# Altium footprint library MultiPowerSO-30.PcbLib: 1 footprints
Each footprint in its own frame and in the unit in brackets; x right, y up, seen from the top. Pads: shape width x height; smd on the part's side, far side on the other; paste and mask are expansions set on the pad; w line width, h text height; cw(c..) or ccw(c..) is an arc to the next point about the centre after c.
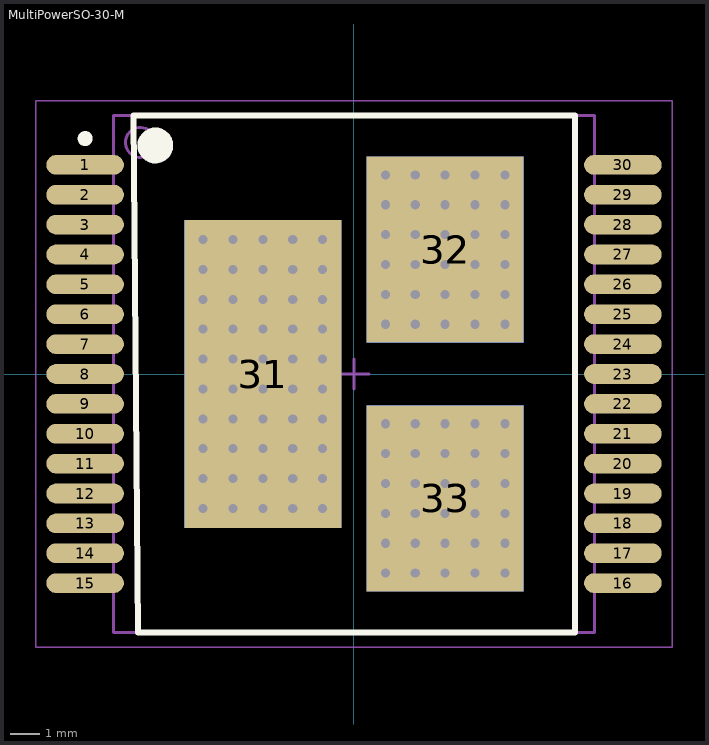
[diagram p0: the footprint, top view; thin cyan lines are the x and y axes]

## MultiPowerSO-30-M [mm] "SOP, 30-Leads, Body 17.20x16.00mm, Pitch 1.00mm,MultiPowerSO-30 Thermal Pad Design, IPC Low Density"
height 2.35
pads (36):
  oval 2.6x0.66 smd: 1(-9,7) 2(-9,6) 3(-9,5) 4(-9,4) 5(-9,3) 6(-9,2) 7(-9,1) 8(-9,0) 9(-9,-1) 10(-9,-2) 11(-9,-3) 12(-9,-4) 13(-9,-5) 14(-9,-6) 15(-9,-7) 16(9,-7) 17(9,-6) 18(9,-5) 19(9,-4) 20(9,-3) 21(9,-2) 22(9,-1) 23(9,0) 24(9,1) 25(9,2) 26(9,3) 27(9,4) 28(9,5) 29(9,6) 30(9,7)
  rect 5.25x10.3 smd far side: 31(-3.05,0)
  rect 5.25x10.3 smd: 31(-3.05,0)
  rect 5.25x6.23 smd far side: 32(3.05,4.165) 33(3.05,-4.165)
  rect 5.25x6.23 smd: 32(3.05,4.165) 33(3.05,-4.165)
via 5.05,-6.665 diameter 0.61 hole 0.305
via 4.05,-6.665 diameter 0.61 hole 0.305
via 3.05,-6.665 diameter 0.61 hole 0.305
via 2.05,-6.665 diameter 0.61 hole 0.305
via 1.05,-6.665 diameter 0.61 hole 0.305
via 1.05,-5.665 diameter 0.61 hole 0.305
via 2.05,-5.665 diameter 0.61 hole 0.305
via 3.05,-5.665 diameter 0.61 hole 0.305
via 4.05,-5.665 diameter 0.61 hole 0.305
via 5.05,-5.665 diameter 0.61 hole 0.305
via 5.05,-4.665 diameter 0.61 hole 0.305
via 4.05,-4.665 diameter 0.61 hole 0.305
via 2.05,-4.665 diameter 0.61 hole 0.305
via 1.05,-4.665 diameter 0.61 hole 0.305
via 1.05,-1.665 diameter 0.61 hole 0.305
via 1.05,-2.665 diameter 0.61 hole 0.305
via 2.05,-2.665 diameter 0.61 hole 0.305
via 2.05,-1.665 diameter 0.61 hole 0.305
via 3.05,-1.665 diameter 0.61 hole 0.305
via 3.05,-2.665 diameter 0.61 hole 0.305
via 4.05,-2.665 diameter 0.61 hole 0.305
via 4.05,-1.665 diameter 0.61 hole 0.305
via 5.05,-1.665 diameter 0.61 hole 0.305
via 5.05,-2.665 diameter 0.61 hole 0.305
via 5.05,-3.665 diameter 0.61 hole 0.305
via 4.05,-3.665 diameter 0.61 hole 0.305
via 1.05,-3.665 diameter 0.61 hole 0.305
via 2.05,-3.665 diameter 0.61 hole 0.305
via 3.05,-4.665 diameter 0.61 hole 0.305
via 3.05,-3.665 diameter 0.61 hole 0.305
via 5.05,1.665 diameter 0.61 hole 0.305
via 4.05,1.665 diameter 0.61 hole 0.305
via 3.05,1.665 diameter 0.61 hole 0.305
via 2.05,1.665 diameter 0.61 hole 0.305
via 1.05,1.665 diameter 0.61 hole 0.305
via 1.05,2.665 diameter 0.61 hole 0.305
via 2.05,2.665 diameter 0.61 hole 0.305
via 3.05,2.665 diameter 0.61 hole 0.305
via 4.05,2.665 diameter 0.61 hole 0.305
via 5.05,2.665 diameter 0.61 hole 0.305
via 5.05,3.665 diameter 0.61 hole 0.305
via 4.05,3.665 diameter 0.61 hole 0.305
via 3.05,3.665 diameter 0.61 hole 0.305
via 2.05,3.665 diameter 0.61 hole 0.305
via 1.05,3.665 diameter 0.61 hole 0.305
via 1.05,4.665 diameter 0.61 hole 0.305
via 2.05,4.665 diameter 0.61 hole 0.305
via 4.05,4.665 diameter 0.61 hole 0.305
via 5.05,4.665 diameter 0.61 hole 0.305
via 5.05,5.665 diameter 0.61 hole 0.305
via 4.05,5.665 diameter 0.61 hole 0.305
via 2.05,5.665 diameter 0.61 hole 0.305
via 1.05,5.665 diameter 0.61 hole 0.305
via 1.05,6.665 diameter 0.61 hole 0.305
via 2.05,6.665 diameter 0.61 hole 0.305
via 5.05,6.665 diameter 0.61 hole 0.305
via 4.05,6.665 diameter 0.61 hole 0.305
via 3.05,6.665 diameter 0.61 hole 0.305
via 3.05,5.665 diameter 0.61 hole 0.305
via 3.05,4.665 diameter 0.61 hole 0.305
via -5.05,-4.5 diameter 0.61 hole 0.305
via -4.05,-4.5 diameter 0.61 hole 0.305
via -3.05,-4.5 diameter 0.61 hole 0.305
via -2.05,-4.5 diameter 0.61 hole 0.305
via -1.05,-4.5 diameter 0.61 hole 0.305
via -1.05,-3.5 diameter 0.61 hole 0.305
via -2.05,-3.5 diameter 0.61 hole 0.305
via -3.05,-3.5 diameter 0.61 hole 0.305
via -4.05,-3.5 diameter 0.61 hole 0.305
via -5.05,-3.5 diameter 0.61 hole 0.305
via -5.05,-2.5 diameter 0.61 hole 0.305
via -4.05,-2.5 diameter 0.61 hole 0.305
via -3.05,-2.5 diameter 0.61 hole 0.305
via -2.05,-2.5 diameter 0.61 hole 0.305
via -1.05,-2.5 diameter 0.61 hole 0.305
via -1.05,-1.5 diameter 0.61 hole 0.305
via -2.05,-1.5 diameter 0.61 hole 0.305
via -3.05,-1.5 diameter 0.61 hole 0.305
via -4.05,-1.5 diameter 0.61 hole 0.305
via -5.05,-1.5 diameter 0.61 hole 0.305
via -4.05,1.5 diameter 0.61 hole 0.305
via -3.05,1.5 diameter 0.61 hole 0.305
via -2.05,1.5 diameter 0.61 hole 0.305
via -1.05,1.5 diameter 0.61 hole 0.305
via -1.05,2.5 diameter 0.61 hole 0.305
via -2.05,2.5 diameter 0.61 hole 0.305
via -3.05,2.5 diameter 0.61 hole 0.305
via -4.05,2.5 diameter 0.61 hole 0.305
via -4.05,3.5 diameter 0.61 hole 0.305
via -3.05,3.5 diameter 0.61 hole 0.305
via -2.05,3.5 diameter 0.61 hole 0.305
via -1.05,3.5 diameter 0.61 hole 0.305
via -1.05,4.5 diameter 0.61 hole 0.305
via -2.05,4.5 diameter 0.61 hole 0.305
via -3.05,4.5 diameter 0.61 hole 0.305
via -4.05,4.5 diameter 0.61 hole 0.305
via -5.05,4.5 diameter 0.61 hole 0.305
via -5.05,3.5 diameter 0.61 hole 0.305
via -5.05,2.5 diameter 0.61 hole 0.305
via -5.05,1.5 diameter 0.61 hole 0.305
via -4.05,0.5 diameter 0.61 hole 0.305
via -5.05,0.5 diameter 0.61 hole 0.305
via -5.05,-0.5 diameter 0.61 hole 0.305
via -4.05,-0.5 diameter 0.61 hole 0.305
via -3.05,-0.5 diameter 0.61 hole 0.305
via -2.05,-0.5 diameter 0.61 hole 0.305
via -1.05,-0.5 diameter 0.61 hole 0.305
via -1.05,0.5 diameter 0.61 hole 0.305
via -2.05,0.5 diameter 0.61 hole 0.305
via -3.05,0.5 diameter 0.61 hole 0.305
Top Overlay:
  circle w0.25: c-9,7.88 r0.125
  circle w0.6: c-6.65,7.65 r0.3
  lines w0.2: -7.378,8.65 -7.225,-8.65 7.4,-8.65 7.4,8.65 -7.378,8.65
Top Solder:
  rectangle: -10.4,-7.43 -7.6,7.43
  rectangle: 7.6,-7.43 10.4,7.43
Top Assembly:
  circle w0.1: c-7.15,7.75 r0.5
  lines w0.1: -8.05,-8.65 8.05,-8.65 8.05,8.65 -8.05,8.65 -8.05,-8.65
Top Courtyard:
  lines w0.05: -10.65,-9.15 10.65,-9.15 10.65,9.15 -10.65,9.15 -10.65,-9.15
  lines w0.1: -0.5,0 0.5,0 ; 0,-0.5 0,0.5
3D body "MultiPowerSO-30-M.step": height 2.35, standoff 0, extent -9.5,-8.65 9.5,8.65